# EAGLE library part CON_01X10 (library PP_Connectors)
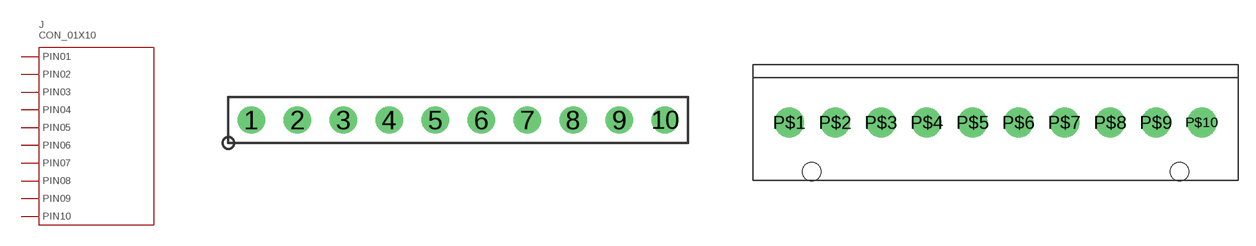
[diagram p7: symbol with the pads of 2.54MM_01X10_PIN_HEADER; footprints 2.54MM_01X10_PIN_HEADER, 26-64-4100]

Designator prefix J

## CON_01X10_2.54MM_PIN_HEADER (POPULATE: 1)  [2.54MM_01X10_PIN_HEADER]
1  1
2  2
3  3
4  4
5  5
6  6
7  7
8  8
9  9
10  10

## CON_01X10_26-64-4100 (POPULATE: 1)  [26-64-4100]
P$1  1
P$2  2
P$3  3
P$4  4
P$5  5
P$6  6
P$7  7
P$8  8
P$9  9
P$10  10

## CON_01X10_1-282834-0 (POPULATE: 1)  [1-282834-0]
Pads as for 26-64-4100

## CON_01X10_26-64-4110(KEYPIN1) (POPULATE: 1)  [26-64-4110(KEYPIN1)]
Pads as for 26-64-4100

## CON_01X10_26-64-4110(KEYPIN10) (POPULATE: 1)  [26-64-4110(KEYPIN10)]
Pads as for 26-64-4100

## CON_01X10_26-64-4110(KEYPIN11) (POPULATE: 1)  [26-64-4110(KEYPIN11)]
Pads as for 26-64-4100

## CON_01X10_26-64-4110(KEYPIN2) (POPULATE: 1)  [26-64-4110(KEYPIN2)]
Pads as for 26-64-4100

## CON_01X10_26-64-4110(KEYPIN3) (POPULATE: 1)  [26-64-4110(KEYPIN3)]
Pads as for 26-64-4100

## CON_01X10_26-64-4110(KEYPIN4) (POPULATE: 1)  [26-64-4110(KEYPIN4)]
Pads as for 26-64-4100

## CON_01X10_26-64-4110(KEYPIN5) (POPULATE: 1)  [26-64-4110(KEYPIN5)]
Pads as for 26-64-4100

## CON_01X10_26-64-4110(KEYPIN6) (POPULATE: 1)  [26-64-4110(KEYPIN6)]
Pads as for 26-64-4100

## CON_01X10_26-64-4110(KEYPIN7) (POPULATE: 1)  [26-64-4110(KEYPIN7)]
Pads as for 26-64-4100

## CON_01X10_26-64-4110(KEYPIN8) (POPULATE: 1)  [26-64-4110(KEYPIN8)]
Pads as for 26-64-4100

## CON_01X10_26-64-4110(KEYPIN9) (POPULATE: 1)  [26-64-4110(KEYPIN9)]
Pads as for 26-64-4100

## CON_01X10_22-23-2101 (POPULATE: 1)  [22-23-2101]
Pads as for 2.54MM_01X10_PIN_HEADER

## Footprint 2.54MM_01X10_PIN_HEADER (pad centres in mm)
drill 1: 1 -11.43,0; 2 -8.89,0; 3 -6.35,0; 4 -3.81,0; 5 -1.27,0; 6 1.27,0; 7 3.81,0; 8 6.35,0; 9 8.89,0; 10 11.43,0

## Footprint 26-64-4100 (pad centres in mm)
drill 1.7: P$1 -17.82,0; P$2 -13.86,0; P$3 -9.9,0; P$4 -5.94,0; P$5 -1.98,0; P$6 1.98,0; P$7 5.94,0; P$8 9.9,0; P$9 13.86,0; P$10 17.82,0
hole 1.6 at -15.875,-4.24
hole 1.6 at 15.875,-4.24

## Footprint 1-282834-0 (pad centres in mm)
drill 1: P$1 -11.43,0; P$2 -8.89,0; P$3 -6.35,0; P$4 -3.81,0; P$5 -1.27,0; P$6 1.27,0; P$7 3.81,0; P$8 6.35,0; P$9 8.89,0; P$10 11.43,0

## Footprint 26-64-4110(KEYPIN1) (pad centres in mm)
drill 1.7: P$1 -15.84,0; P$2 -11.88,0; P$3 -7.92,0; P$4 -3.96,0; P$5 0,0; P$6 3.96,0; P$7 7.92,0; P$8 11.88,0; P$9 15.84,0; P$10 19.8,0
hole 1.6 at -17.855,-4.24
hole 1.6 at 17.855,-4.24

## Footprint 26-64-4110(KEYPIN10) (pad centres in mm)
drill 1.7: P$1 -19.8,0; P$2 -15.84,0; P$3 -11.88,0; P$4 -7.92,0; P$5 -3.96,0; P$6 0,0; P$7 3.96,0; P$8 7.92,0; P$9 11.88,0; P$10 19.8,0
hole 1.6 at -17.855,-4.24
hole 1.6 at 17.855,-4.24

## Footprint 26-64-4110(KEYPIN11) (pad centres in mm)
drill 1.7: P$1 -19.8,0; P$2 -15.84,0; P$3 -11.88,0; P$4 -7.92,0; P$5 -3.96,0; P$6 0,0; P$7 3.96,0; P$8 7.92,0; P$9 11.88,0; P$10 15.84,0
hole 1.6 at -17.855,-4.24
hole 1.6 at 17.855,-4.24

## Footprint 26-64-4110(KEYPIN2) (pad centres in mm)
drill 1.7: P$1 -19.8,0; P$2 -11.88,0; P$3 -7.92,0; P$4 -3.96,0; P$5 0,0; P$6 3.96,0; P$7 7.92,0; P$8 11.88,0; P$9 15.84,0; P$10 19.8,0
hole 1.6 at -17.855,-4.24
hole 1.6 at 17.855,-4.24

## Footprint 26-64-4110(KEYPIN3) (pad centres in mm)
drill 1.7: P$1 -19.8,0; P$2 -15.84,0; P$3 -7.92,0; P$4 -3.96,0; P$5 0,0; P$6 3.96,0; P$7 7.92,0; P$8 11.88,0; P$9 15.84,0; P$10 19.8,0
hole 1.6 at -17.855,-4.24
hole 1.6 at 17.855,-4.24

## Footprint 26-64-4110(KEYPIN4) (pad centres in mm)
drill 1.7: P$1 -19.8,0; P$2 -15.84,0; P$3 -11.88,0; P$4 -3.96,0; P$5 0,0; P$6 3.96,0; P$7 7.92,0; P$8 11.88,0; P$9 15.84,0; P$10 19.8,0
hole 1.6 at -17.855,-4.24
hole 1.6 at 17.855,-4.24

## Footprint 26-64-4110(KEYPIN5) (pad centres in mm)
drill 1.7: P$1 -19.8,0; P$2 -15.84,0; P$3 -11.88,0; P$4 -7.92,0; P$5 0,0; P$6 3.96,0; P$7 7.92,0; P$8 11.88,0; P$9 15.84,0; P$10 19.8,0
hole 1.6 at -17.855,-4.24
hole 1.6 at 17.855,-4.24

## Footprint 26-64-4110(KEYPIN6) (pad centres in mm)
drill 1.7: P$1 -19.8,0; P$2 -15.84,0; P$3 -11.88,0; P$4 -7.92,0; P$5 -3.96,0; P$6 3.96,0; P$7 7.92,0; P$8 11.88,0; P$9 15.84,0; P$10 19.8,0
hole 1.6 at -17.855,-4.24
hole 1.6 at 17.855,-4.24

## Footprint 26-64-4110(KEYPIN7) (pad centres in mm)
drill 1.7: P$1 -19.8,0; P$2 -15.84,0; P$3 -11.88,0; P$4 -7.92,0; P$5 -3.96,0; P$6 0,0; P$7 7.92,0; P$8 11.88,0; P$9 15.84,0; P$10 19.8,0
hole 1.6 at -17.855,-4.24
hole 1.6 at 17.855,-4.24

## Footprint 26-64-4110(KEYPIN8) (pad centres in mm)
drill 1.7: P$1 -19.8,0; P$2 -15.84,0; P$3 -11.88,0; P$4 -7.92,0; P$5 -3.96,0; P$6 0,0; P$7 3.96,0; P$8 11.88,0; P$9 15.84,0; P$10 19.8,0
hole 1.6 at -17.855,-4.24
hole 1.6 at 17.855,-4.24

## Footprint 26-64-4110(KEYPIN9) (pad centres in mm)
drill 1.7: P$1 -19.8,0; P$2 -15.84,0; P$3 -11.88,0; P$4 -7.92,0; P$5 -3.96,0; P$6 0,0; P$7 3.96,0; P$8 7.92,0; P$9 15.84,0; P$10 19.8,0
hole 1.6 at -17.855,-4.24
hole 1.6 at 17.855,-4.24

## Footprint 22-23-2101 (pad centres in mm)
drill 1: 1 -11.43,0; 2 -8.89,0; 3 -6.35,0; 4 -3.81,0; 5 -1.27,0; 6 1.27,0; 7 3.81,0; 8 6.35,0; 9 8.89,0; 10 11.43,0